# Altium footprint library Misc.PcbLib: 53 footprints (part 4 of 4)
Each footprint in its own frame and in the unit in brackets; x right, y up, seen from the top. Pads: shape width x height; smd on the part's side, far side on the other; paste and mask are expansions set on the pad; w line width, h text height; cw(c..) or ccw(c..) is an arc to the next point about the centre after c.
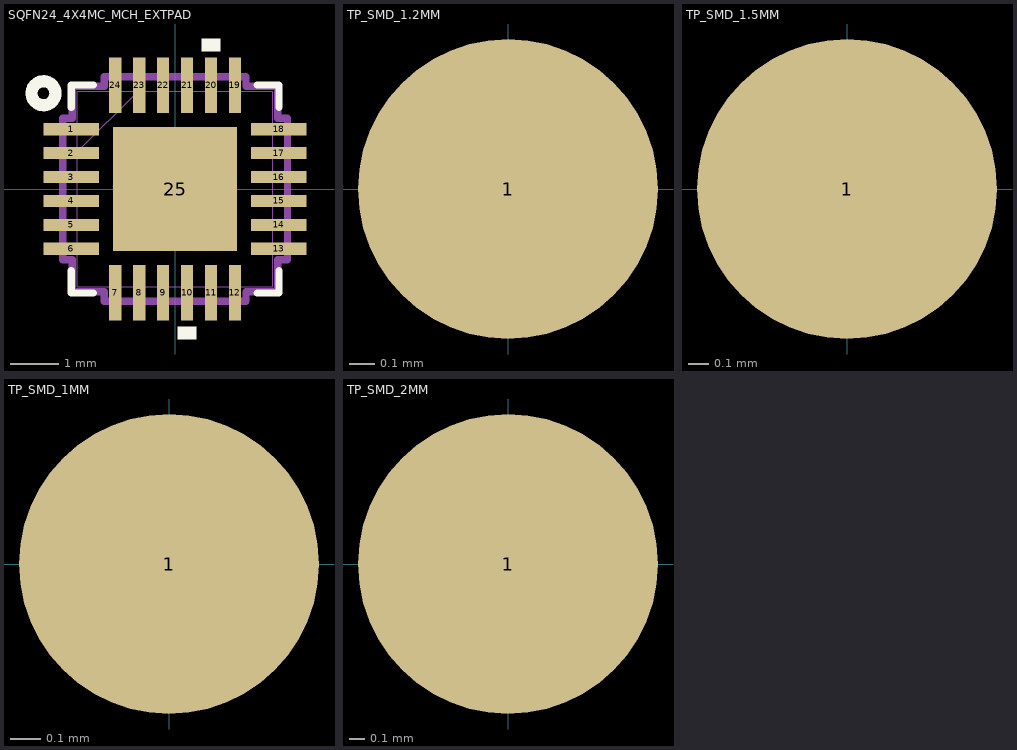
[diagram p3: the footprints below, top view; thin cyan lines are the x and y axes]

## SQFN24_4X4MC_MCH_EXTPAD [mm]
pads (25):
  rect 1.157x0.255 smd paste+0 mask+0: 1(-2.166,1.25) 2(-2.166,0.75) 3(-2.166,0.25) 4(-2.166,-0.25) 5(-2.166,-0.75) 6(-2.166,-1.25) 13(2.166,-1.25) 14(2.166,-0.75) 15(2.166,-0.25) 16(2.166,0.25) 17(2.166,0.75) 18(2.166,1.25)
  rect 0.255x1.157 smd paste+0 mask+0: 7(-1.25,-2.166) 8(-0.75,-2.166) 9(-0.25,-2.166) 10(0.25,-2.166) 11(0.75,-2.166) 12(1.25,-2.166) 19(1.25,2.166) 20(0.75,2.166) 21(0.25,2.166) 22(-0.25,2.166) 23(-0.75,2.166) 24(-1.25,2.166)
  rect 2.591x2.591 smd paste-1.283 mask+0: 25(0,0)
Top Overlay:
  circle w0.254: c-2.75,2 r0.25
  region: 0.44,-2.88 0.059,-2.88 0.059,-3.134 0.44,-3.134
  region: 0.941,2.88 0.56,2.88 0.56,3.134 0.941,3.134
  lines w0.152: -2.172,-1.71 -2.172,-2.172 -1.71,-2.172 ; -2.172,1.71 -2.172,2.172 -1.71,2.172 ; 1.71,-2.172 2.172,-2.172 2.172,-1.71 ; 1.71,2.172 2.172,2.172 2.172,1.71
Top Paste:
  region: -0.1,1.195 -1.195,1.195 -1.195,0.1 -0.1,0.1
  region: -0.1,-0.1 -1.195,-0.1 -1.195,-1.195 -0.1,-1.195
  region: 1.195,1.195 0.1,1.195 0.1,0.1 1.195,0.1
  region: 1.195,-0.1 0.1,-0.1 0.1,-1.195 1.195,-1.195
Mechanical 13:
  lines w0.025: -2.045,0.775 -0.775,2.045 ; -2.045,-2.045 2.045,-2.045 2.045,2.045 -2.045,2.045 -2.045,-2.045 ; -2.045,-1.402 -2.045,-1.098 -2.045,-1.402 ; -2.045,-0.902 -2.045,-0.598 -2.045,-0.902 ; -2.045,-0.402 -2.045,-0.098 -2.045,-0.402 ; -2.045,0.098 -2.045,0.402 -2.045,0.098 ; -2.045,0.598 -2.045,0.902 -2.045,0.598 ; -2.045,1.098 -2.045,1.402 -2.045,1.098 ; -1.402,-2.045 -1.098,-2.045 -1.402,-2.045 ; -1.402,2.045 -1.098,2.045 -1.402,2.045 ; -0.902,-2.045 -0.598,-2.045 -0.902,-2.045 ; -0.902,2.045 -0.598,2.045 -0.902,2.045 ; -0.402,-2.045 -0.098,-2.045 -0.402,-2.045 ; -0.402,2.045 -0.098,2.045 -0.402,2.045 ; 0.098,-2.045 0.402,-2.045 0.098,-2.045 ; 0.098,2.045 0.402,2.045 0.098,2.045 ; 0.598,-2.045 0.902,-2.045 0.598,-2.045 ; 0.598,2.045 0.902,2.045 0.598,2.045 ; 1.098,-2.045 1.402,-2.045 1.098,-2.045 ; 1.098,2.045 1.402,2.045 1.098,2.045 ; 2.045,-1.402 2.045,-1.098 2.045,-1.402 ; 2.045,-0.902 2.045,-0.598 2.045,-0.902 ; 2.045,-0.402 2.045,-0.098 2.045,-0.402 ; 2.045,0.098 2.045,0.402 2.045,0.098 ; 2.045,0.598 2.045,0.902 2.045,0.598 ; 2.045,1.098 2.045,1.402 2.045,1.098
  text "*" at -1.905,0.865 h1.27
Mechanical 15:
  lines w0.152: -2.346,-1.479 -2.146,-1.479 -2.146,-2.146 -1.479,-2.146 -1.479,-2.346 1.479,-2.346 1.479,-2.146 2.146,-2.146 2.146,-1.479 2.346,-1.479 2.346,1.479 2.146,1.479 2.146,2.146 1.479,2.146 1.479,2.346 -1.479,2.346 -1.479,2.146 -2.146,2.146 -2.146,1.479 -2.346,1.479 -2.346,-1.479
3D body "SQFN24_4X4MC_MCH.step": height 1.65, standoff 0, extent -2.045,-2.045 2.045,2.045
3D body: height 0.25, standoff 0, extent 0,0 0.254,0.254

## TP_SMD_1.2MM [mm]
pads (1):
  round 1.2 smd: 1(0,0)

## TP_SMD_1.5MM [mm]
pads (1):
  round 1.5 smd: 1(0,0)

## TP_SMD_1MM [mm]
pads (1):
  round 1 smd: 1(0,0)

## TP_SMD_2MM [mm]
pads (1):
  round 2 smd: 1(0,0)